# Altium schematic symbol library Connector1x10.Schlib: 1 symbol
Pins are listed as number, name and electrical type; pins without a type are passive.

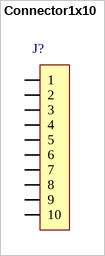
[diagram p0: symbol Connector1x10]

## Connector1x10
designator J?
pins: 1, 2, 3, 4, 5, 6, 7, 8, 9, 10